# Altium footprint library hsbest.PcbLib: 389 footprints (part 25 of 25)
Each footprint in its own frame and in the unit in brackets; x right, y up, seen from the top. Pads: shape width x height; smd on the part's side, far side on the other; paste and mask are expansions set on the pad; w line width, h text height; cw(c..) or ccw(c..) is an arc to the next point about the centre after c.
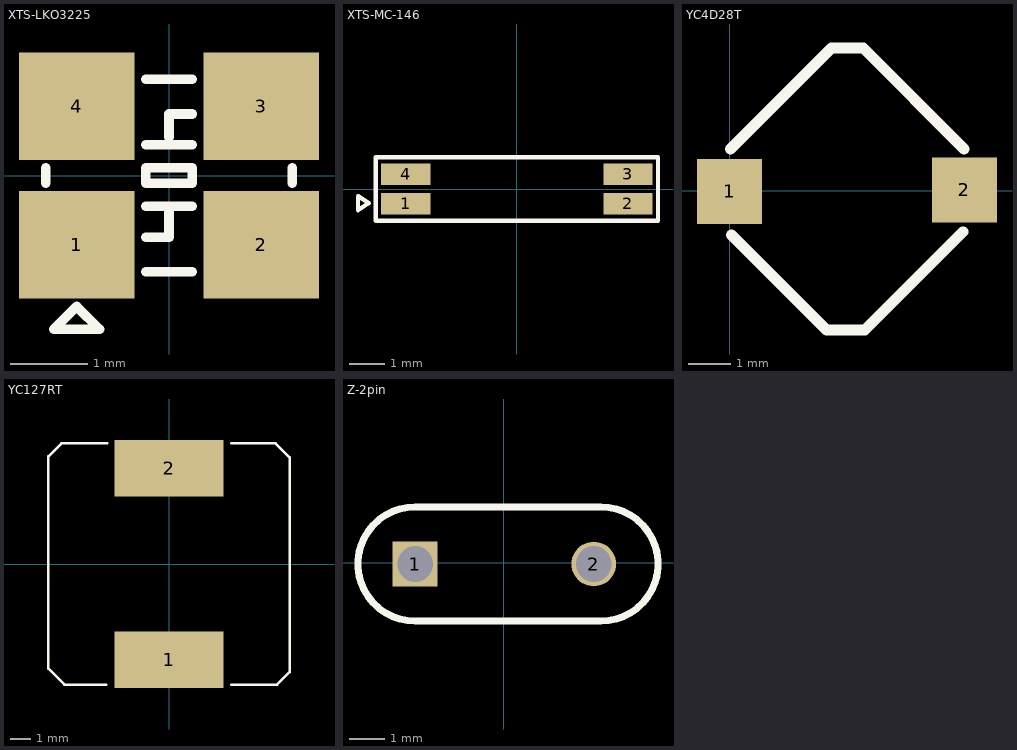
[diagram p24: the footprints below, top view; thin cyan lines are the x and y axes]

## XTS-LKO3225 [mm]
pads (4):
  rect 1.5x1.4 smd: 1(-1.2,-0.9) 2(1.2,-0.9) 3(1.2,0.9) 4(-1.2,0.9)
Top Overlay:
  lines w0.125: -1.6,-0.1 -1.6,0.1 ; -0.3,-1.25 0.3,-1.25 ; -0.3,-0.8 0,-0.8 0,-0.4 ; -0.3,-0.4 0.3,-0.4 ; -0.3,0.4 0.3,0.4 ; -0.3,1.25 0.3,1.25 ; 0,0.5 0,0.8 0.3,0.8 ; 1.6,-0.1 1.6,0.1 ; -1.5,-2 -0.9,-2 -1.2,-1.7 -1.5,-2 ; -0.3,-0.1 0.3,-0.1 0.3,0.1 -0.3,0.1 -0.3,-0.1

## XTS-MC-146 [mm]
pads (4):
  rect 1.4x0.6 smd: 1(-3.15,-0.42) 2(3.15,-0.42) 3(3.15,0.42) 4(-3.15,0.42)
Top Overlay:
  lines w0.125: -4.5,-0.6 -4.2,-0.4 -4.5,-0.2 -4.5,-0.6 ; -4,-0.9 -4,0.9 4,0.9 4,-0.9 -4,-0.9

## YC4D28T [mil]
pads (2):
  rect 60x60 smd: 1(-0.12,-0.34) 2(216.54,0.9)
Top Overlay:
  lines w10: 0.8,38.57 93.96,131.73 123.19,131.73 216.11,38.81 ; 1.68,-40.6 89.21,-128.13 124.53,-128.13 215.1,-37.56

## YC127RT [mm]
pads (2):
  rect 5.4x2.8 smd: 1(0,-4.76) 2(0,4.76)
Top Overlay:
  lines w0.127: -3.125,-6 -5.2,-6 -6,-5.2 -6,5.35 -5.35,6 -3.075,6 ; 3.1,-6 5.375,-6 6,-5.375 6,5.3 5.3,6 3.1,6

## Z-2pin [mm]
pads (2):
  rect 1.254x1.254 hole 1: 1(-2.478,-0.038)
  round 1.254 hole 1: 2(2.522,-0.038)
Top Overlay:
  lines w0.2: -2.478,-1.638 cw(c-2.478,-0.038) -2.478,1.562 0.422,1.562 2.722,1.562 cw(c2.722,-0.038) 2.722,-1.638 0.422,-1.638 -2.478,-1.638